# Altium integrated library Cypress Clocks & Buffers Clock Distribution.IntLib: 321 symbols (part 20 of 25)
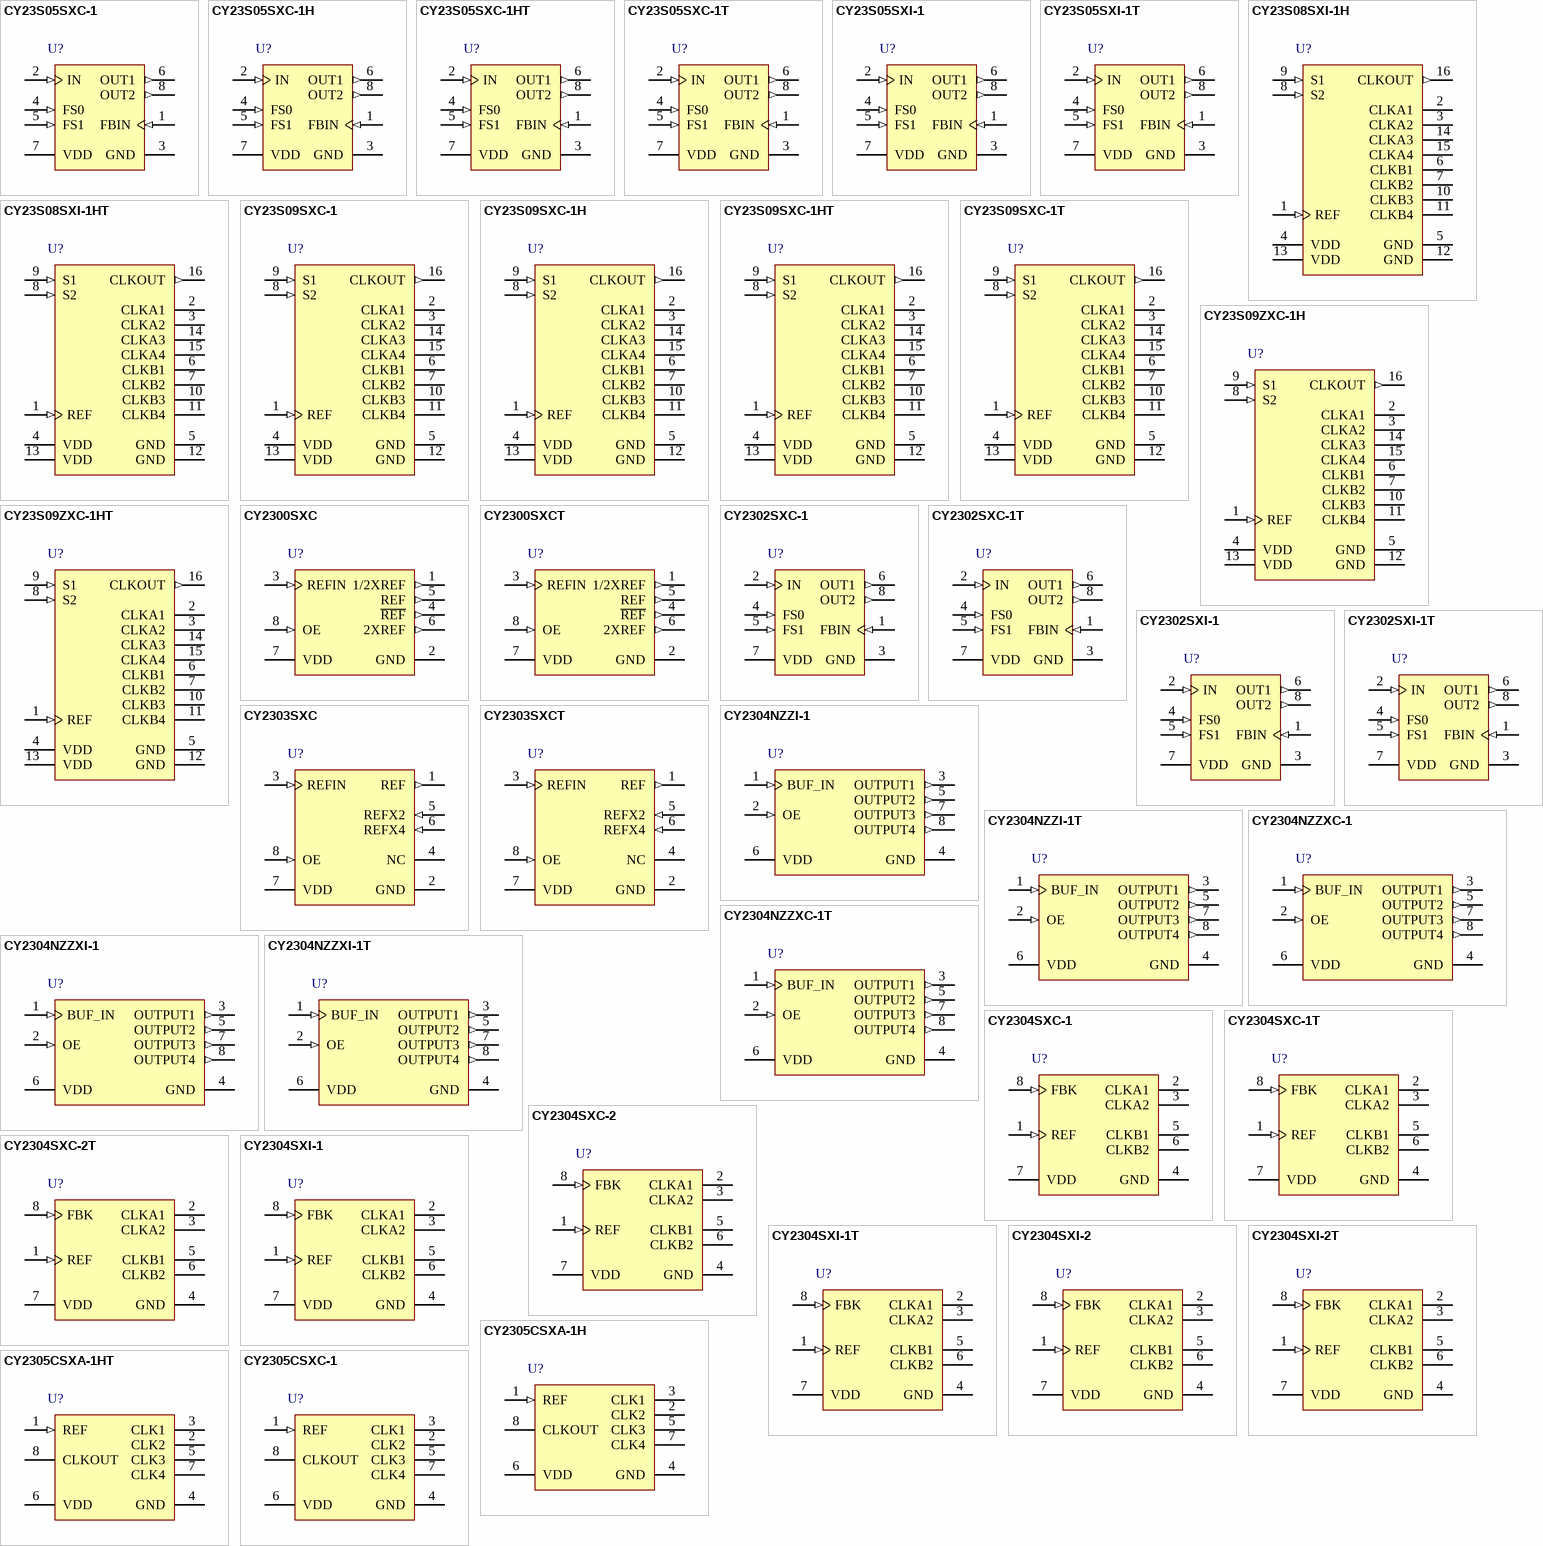
[diagram p35: symbols CY23S05SXC-1 to CY2305CSXC-1]

## CY2305CSXA-1HT
designator U?
Zero Delay Clock Buffer, 3.3 V, 5 Outputs, 10 to 133 MHz, -40 to 85 degC, 8-Pin SOIC (SX8), Tape and Reel; Manufacturer: Cypress; PartNumber: CY2305CSXA-1HT; Input Frequency Max. (MHz): 133; Input Frequency Min. (MHz): 10; Max. Operating Voltage (V): 3.6; Min. Operating Voltage (V): 3; No. of Outputs: 5; DatasheetVersion: Rev. *M; PackageVersion: Rev. *E, 06/2011; PackageReference: SX8; PackageDescription: 8-pin Lead SOIC-S08, Body 4.89 x 3.90 mm,Pitch 1.27 mm; Supplier 1: Digi-Key; Supplier Part Number 1: CY2305CSXA-1HT-ND; Supplier 2: Mouser; Supplier Part Number 2: 727-CY2305CSXA-1HT; Max. Operating Temp. (degreesC): 85; Min. Operating Temp. (degreesC): -40; Output Frequency Max. (MHz): 133; Output Frequency Min. (MHz): 10; Packing: Tape and Reel; RoHS: Pb-Free; Mounting Technology: Surface Mount; Code_JEDEC: MS-012; ComponentLink1Description: Manufacturer URL; ComponentLink1URL: http://www.cypress.com/; ComponentLink2Description: Datasheet; ComponentLink2URL: http://www.cypress.com/?docID=46973; ComponentLink3Description: Package Specification; ComponentLink3URL: http://www.cypress.com/?docID=39153
footprint CYP-SX8_N (SOIC, 8-Leads, Body 4.89x3.90mm, Pitch 1.27mm, IPC Medium Density)
footprint CYP-SX8_L (SOIC, 8-Leads, Body 4.89x3.90mm, Pitch 1.27mm, IPC High Density)
footprint CYP-SX8_M (SOIC, 8-Leads, Body 4.89x3.90mm, Pitch 1.27mm, IPC Low Density)
pins: 1 REF (in) "Input reference frequency", 2 CLK2 (hiz) "Buffered clock output", 3 CLK1 (hiz) "Buffered clock output", 4 GND (power) "Ground", 5 CLK3 (hiz) "Buffered clock output", 6 VDD (power) "3.3 V supply", 7 CLK4 (hiz) "Buffered clock output", 8 CLKOUT (hiz) "Buffered clock output, internal feedback on this pin"

## CY2305CSXC-1
designator U?
Zero Delay Clock Buffer, 3.3 V, 5 Outputs, 10 to 133 MHz, 0 to 70 degC, 8-Pin SOIC (SX8), Tube; Manufacturer: Cypress; PartNumber: CY2305CSXC-1; Input Frequency Max. (MHz): 133; Input Frequency Min. (MHz): 10; Max. Operating Voltage (V): 3.6; Min. Operating Voltage (V): 3; No. of Outputs: 5; DatasheetVersion: Rev. *M; PackageVersion: Rev. *E, 06/2011; PackageReference: SX8; PackageDescription: 8-pin Lead SOIC-S08, Body 4.89 x 3.90 mm,Pitch 1.27 mm; Supplier 1: Digi-Key; Supplier Part Number 1: 428-2193-5-ND; Supplier 2: Farnell; Supplier Part Number 2: 1873001; Supplier 3: Newark; Supplier Part Number 3: 19M2135; Supplier 4: Mouser; Supplier Part Number 4: 727-CY2305CSXC-1; Max. Operating Temp. (degreesC): 70; Min. Operating Temp. (degreesC): 0; Output Frequency Max. (MHz): 133; Output Frequency Min. (MHz): 10; Packing: Tube; RoHS: Pb-Free; Mounting Technology: Surface Mount; Code_JEDEC: MS-012; ComponentLink1Description: Manufacturer URL; ComponentLink1URL: http://www.cypress.com/; ComponentLink2Description: Datasheet; ComponentLink2URL: http://www.cypress.com/?docID=46973; ComponentLink3Description: Package Specification; ComponentLink3URL: http://www.cypress.com/?docID=39153
footprint CYP-SX8_N (SOIC, 8-Leads, Body 4.89x3.90mm, Pitch 1.27mm, IPC Medium Density)
footprint CYP-SX8_L (SOIC, 8-Leads, Body 4.89x3.90mm, Pitch 1.27mm, IPC High Density)
footprint CYP-SX8_M (SOIC, 8-Leads, Body 4.89x3.90mm, Pitch 1.27mm, IPC Low Density)
pins: 1 REF (in) "Input reference frequency", 2 CLK2 (hiz) "Buffered clock output", 3 CLK1 (hiz) "Buffered clock output", 4 GND (power) "Ground", 5 CLK3 (hiz) "Buffered clock output", 6 VDD (power) "3.3 V supply", 7 CLK4 (hiz) "Buffered clock output", 8 CLKOUT (hiz) "Buffered clock output, internal feedback on this pin"

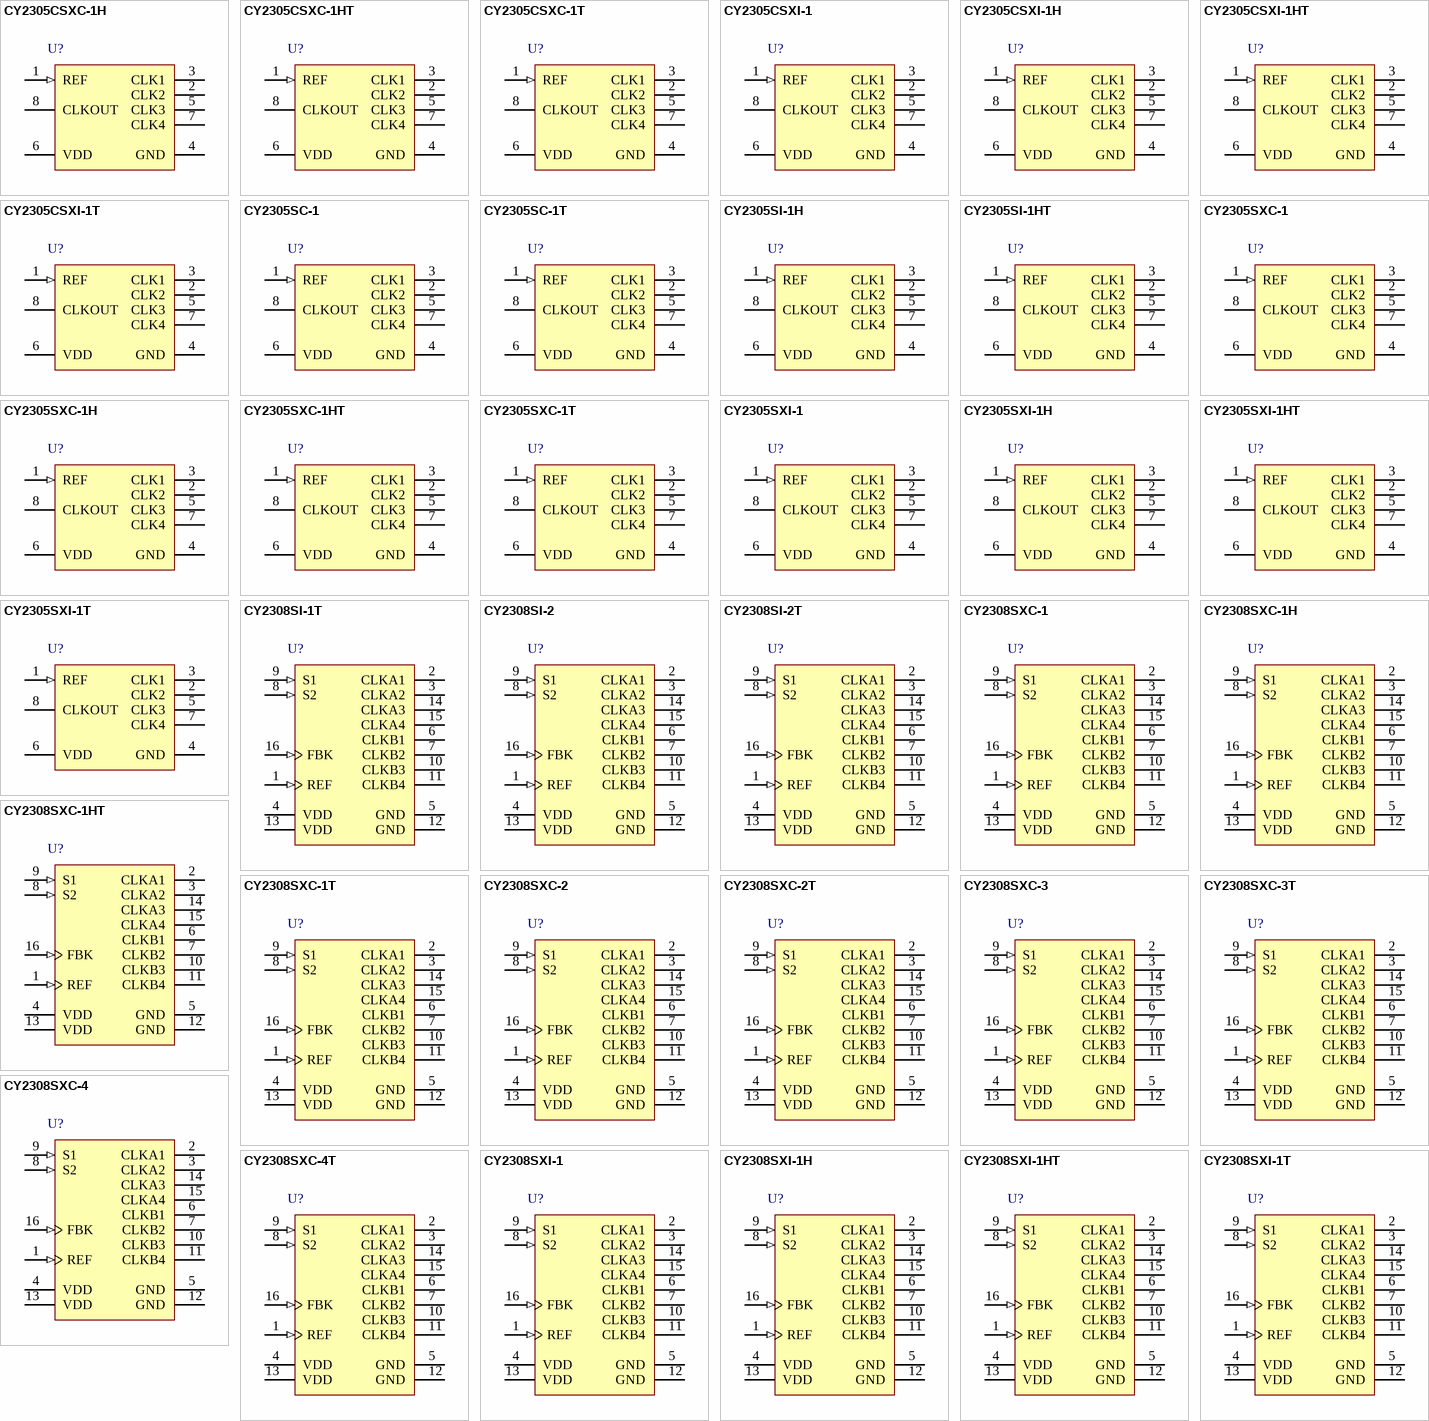
[diagram p12: symbols CY2305CSXC-1H to CY2308SXI-1T]

## CY2305CSXC-1H
designator U?
Zero Delay Clock Buffer, 3.3 V, 5 Outputs, 10 to 133 MHz, 0 to 70 degC, 8-Pin SOIC (SX8), Tube; Manufacturer: Cypress; PartNumber: CY2305CSXC-1H; Input Frequency Max. (MHz): 133; Input Frequency Min. (MHz): 10; Max. Operating Voltage (V): 3.6; Min. Operating Voltage (V): 3; No. of Outputs: 5; DatasheetVersion: Rev. *M; PackageVersion: Rev. *E, 06/2011; PackageReference: SX8; PackageDescription: 8-pin Lead SOIC-S08, Body 4.89 x 3.90 mm,Pitch 1.27 mm; Supplier 1: Digi-Key; Supplier Part Number 1: 428-2194-5-ND; Supplier 2: Newark; Supplier Part Number 2: 19M2136; Supplier 3: Mouser; Supplier Part Number 3: 727-CY2305CSXC-1H; Max. Operating Temp. (degreesC): 70; Min. Operating Temp. (degreesC): 0; Output Frequency Max. (MHz): 133; Output Frequency Min. (MHz): 10; Packing: Tube; RoHS: Pb-Free; Mounting Technology: Surface Mount; Code_JEDEC: MS-012; ComponentLink1Description: Manufacturer URL; ComponentLink1URL: http://www.cypress.com/; ComponentLink2Description: Datasheet; ComponentLink2URL: http://www.cypress.com/?docID=46973; ComponentLink3Description: Package Specification; ComponentLink3URL: http://www.cypress.com/?docID=39153
footprint CYP-SX8_N (SOIC, 8-Leads, Body 4.89x3.90mm, Pitch 1.27mm, IPC Medium Density)
footprint CYP-SX8_L (SOIC, 8-Leads, Body 4.89x3.90mm, Pitch 1.27mm, IPC High Density)
footprint CYP-SX8_M (SOIC, 8-Leads, Body 4.89x3.90mm, Pitch 1.27mm, IPC Low Density)
pins: 1 REF (in) "Input reference frequency", 2 CLK2 (hiz) "Buffered clock output", 3 CLK1 (hiz) "Buffered clock output", 4 GND (power) "Ground", 5 CLK3 (hiz) "Buffered clock output", 6 VDD (power) "3.3 V supply", 7 CLK4 (hiz) "Buffered clock output", 8 CLKOUT (hiz) "Buffered clock output, internal feedback on this pin"

## CY2305CSXC-1HT
designator U?
Zero Delay Clock Buffer, 3.3 V, 5 Outputs, 10 to 133 MHz, 0 to 70 degC, 8-Pin SOIC (SX8), Tape and Reel; Manufacturer: Cypress; PartNumber: CY2305CSXC-1HT; Input Frequency Max. (MHz): 133; Input Frequency Min. (MHz): 10; Max. Operating Voltage (V): 3.6; Min. Operating Voltage (V): 3; No. of Outputs: 5; DatasheetVersion: Rev. *M; PackageVersion: Rev. *E, 06/2011; PackageReference: SX8; PackageDescription: 8-pin Lead SOIC-S08, Body 4.89 x 3.90 mm,Pitch 1.27 mm; Supplier 1: Digi-Key; Supplier Part Number 1: CY2305CSXC-1HT-ND; Supplier 2: Mouser; Supplier Part Number 2: 727-CY2305CSXC-1HT; Max. Operating Temp. (degreesC): 70; Min. Operating Temp. (degreesC): 0; Output Frequency Max. (MHz): 133; Output Frequency Min. (MHz): 10; Packing: Tape and Reel; RoHS: Pb-Free; Mounting Technology: Surface Mount; Code_JEDEC: MS-012; ComponentLink1Description: Manufacturer URL; ComponentLink1URL: http://www.cypress.com/; ComponentLink2Description: Datasheet; ComponentLink2URL: http://www.cypress.com/?docID=46973; ComponentLink3Description: Package Specification; ComponentLink3URL: http://www.cypress.com/?docID=39153
footprint CYP-SX8_N (SOIC, 8-Leads, Body 4.89x3.90mm, Pitch 1.27mm, IPC Medium Density)
footprint CYP-SX8_L (SOIC, 8-Leads, Body 4.89x3.90mm, Pitch 1.27mm, IPC High Density)
footprint CYP-SX8_M (SOIC, 8-Leads, Body 4.89x3.90mm, Pitch 1.27mm, IPC Low Density)
pins: 1 REF (in) "Input reference frequency", 2 CLK2 (hiz) "Buffered clock output", 3 CLK1 (hiz) "Buffered clock output", 4 GND (power) "Ground", 5 CLK3 (hiz) "Buffered clock output", 6 VDD (power) "3.3 V supply", 7 CLK4 (hiz) "Buffered clock output", 8 CLKOUT (hiz) "Buffered clock output, internal feedback on this pin"

## CY2305CSXC-1T
designator U?
Zero Delay Clock Buffer, 3.3 V, 5 Outputs, 10 to 133 MHz, 0 to 70 degC, 8-Pin SOIC (SX8), Tape and Reel; Manufacturer: Cypress; PartNumber: CY2305CSXC-1T; Input Frequency Max. (MHz): 133; Input Frequency Min. (MHz): 10; Max. Operating Voltage (V): 3.6; Min. Operating Voltage (V): 3; No. of Outputs: 5; DatasheetVersion: Rev. *M; PackageVersion: Rev. *E, 06/2011; PackageReference: SX8; PackageDescription: 8-pin Lead SOIC-S08, Body 4.89 x 3.90 mm,Pitch 1.27 mm; Supplier 1: Digi-Key; Supplier Part Number 1: CY2305CSXC-1T-ND; Supplier 2: Newark; Supplier Part Number 2: 19M2138; Supplier 3: Mouser; Supplier Part Number 3: 727-CY2305CSXC-1T; Max. Operating Temp. (degreesC): 70; Min. Operating Temp. (degreesC): 0; Output Frequency Max. (MHz): 133; Output Frequency Min. (MHz): 10; Packing: Tape and Reel; RoHS: Pb-Free; Mounting Technology: Surface Mount; Code_JEDEC: MS-012; ComponentLink1Description: Manufacturer URL; ComponentLink1URL: http://www.cypress.com/; ComponentLink2Description: Datasheet; ComponentLink2URL: http://www.cypress.com/?docID=46973; ComponentLink3Description: Package Specification; ComponentLink3URL: http://www.cypress.com/?docID=39153
footprint CYP-SX8_N (SOIC, 8-Leads, Body 4.89x3.90mm, Pitch 1.27mm, IPC Medium Density)
footprint CYP-SX8_L (SOIC, 8-Leads, Body 4.89x3.90mm, Pitch 1.27mm, IPC High Density)
footprint CYP-SX8_M (SOIC, 8-Leads, Body 4.89x3.90mm, Pitch 1.27mm, IPC Low Density)
pins: 1 REF (in) "Input reference frequency", 2 CLK2 (hiz) "Buffered clock output", 3 CLK1 (hiz) "Buffered clock output", 4 GND (power) "Ground", 5 CLK3 (hiz) "Buffered clock output", 6 VDD (power) "3.3 V supply", 7 CLK4 (hiz) "Buffered clock output", 8 CLKOUT (hiz) "Buffered clock output, internal feedback on this pin"

## CY2305CSXI-1
designator U?
Zero Delay Clock Buffer, 3.3 V, 5 Outputs, 10 to 133 MHz, -40 to 85 degC, 8-Pin SOIC (SX8), Tube; Manufacturer: Cypress; PartNumber: CY2305CSXI-1; Input Frequency Max. (MHz): 133; Input Frequency Min. (MHz): 10; Max. Operating Voltage (V): 3.6; Min. Operating Voltage (V): 3; No. of Outputs: 5; DatasheetVersion: Rev. *M; PackageVersion: Rev. *E, 06/2011; PackageReference: SX8; PackageDescription: 8-pin Lead SOIC-S08, Body 4.89 x 3.90 mm,Pitch 1.27 mm; Supplier 1: Digi-Key; Supplier Part Number 1: 428-2195-5-ND; Supplier 2: Newark; Supplier Part Number 2: 19M2139; Supplier 3: Mouser; Supplier Part Number 3: 727-CY2305CSXI-1; Max. Operating Temp. (degreesC): 85; Min. Operating Temp. (degreesC): -40; Output Frequency Max. (MHz): 133; Output Frequency Min. (MHz): 10; Packing: Tube; RoHS: Pb-Free; Mounting Technology: Surface Mount; Code_JEDEC: MS-012; ComponentLink1Description: Manufacturer URL; ComponentLink1URL: http://www.cypress.com/; ComponentLink2Description: Datasheet; ComponentLink2URL: http://www.cypress.com/?docID=46973; ComponentLink3Description: Package Specification; ComponentLink3URL: http://www.cypress.com/?docID=39153
footprint CYP-SX8_N (SOIC, 8-Leads, Body 4.89x3.90mm, Pitch 1.27mm, IPC Medium Density)
footprint CYP-SX8_L (SOIC, 8-Leads, Body 4.89x3.90mm, Pitch 1.27mm, IPC High Density)
footprint CYP-SX8_M (SOIC, 8-Leads, Body 4.89x3.90mm, Pitch 1.27mm, IPC Low Density)
pins: 1 REF (in) "Input reference frequency", 2 CLK2 (hiz) "Buffered clock output", 3 CLK1 (hiz) "Buffered clock output", 4 GND (power) "Ground", 5 CLK3 (hiz) "Buffered clock output", 6 VDD (power) "3.3 V supply", 7 CLK4 (hiz) "Buffered clock output", 8 CLKOUT (hiz) "Buffered clock output, internal feedback on this pin"

## CY2305CSXI-1H
designator U?
Zero Delay Clock Buffer, 3.3 V, 5 Outputs, 10 to 133 MHz, -40 to 85 degC, 8-Pin SOIC (SX8), Tube; Manufacturer: Cypress; PartNumber: CY2305CSXI-1H; Input Frequency Max. (MHz): 133; Input Frequency Min. (MHz): 10; Max. Operating Voltage (V): 3.6; Min. Operating Voltage (V): 3; No. of Outputs: 5; DatasheetVersion: Rev. *M; PackageVersion: Rev. *E, 06/2011; PackageReference: SX8; PackageDescription: 8-pin Lead SOIC-S08, Body 4.89 x 3.90 mm,Pitch 1.27 mm; Supplier 1: Digi-Key; Supplier Part Number 1: 428-2196-5-ND; Supplier 2: Farnell; Supplier Part Number 2: 1876325; Supplier 3: Newark; Supplier Part Number 3: 19M2140; Supplier 4: Mouser; Supplier Part Number 4: 727-CY2305CSXI-1H; Max. Operating Temp. (degreesC): 85; Min. Operating Temp. (degreesC): -40; Output Frequency Max. (MHz): 133; Output Frequency Min. (MHz): 10; Packing: Tube; RoHS: Pb-Free; Mounting Technology: Surface Mount; Code_JEDEC: MS-012; ComponentLink1Description: Manufacturer URL; ComponentLink1URL: http://www.cypress.com/; ComponentLink2Description: Datasheet; ComponentLink2URL: http://www.cypress.com/?docID=46973; ComponentLink3Description: Package Specification; ComponentLink3URL: http://www.cypress.com/?docID=39153
footprint CYP-SX8_N (SOIC, 8-Leads, Body 4.89x3.90mm, Pitch 1.27mm, IPC Medium Density)
footprint CYP-SX8_L (SOIC, 8-Leads, Body 4.89x3.90mm, Pitch 1.27mm, IPC High Density)
footprint CYP-SX8_M (SOIC, 8-Leads, Body 4.89x3.90mm, Pitch 1.27mm, IPC Low Density)
pins: 1 REF (in) "Input reference frequency", 2 CLK2 (hiz) "Buffered clock output", 3 CLK1 (hiz) "Buffered clock output", 4 GND (power) "Ground", 5 CLK3 (hiz) "Buffered clock output", 6 VDD (power) "3.3 V supply", 7 CLK4 (hiz) "Buffered clock output", 8 CLKOUT (hiz) "Buffered clock output, internal feedback on this pin"

## CY2305CSXI-1HT
designator U?
Zero Delay Clock Buffer, 3.3 V, 5 Outputs, 10 to 133 MHz, -40 to 85 degC, 8-Pin SOIC (SX8), Tape and Reel; Manufacturer: Cypress; PartNumber: CY2305CSXI-1HT; Input Frequency Max. (MHz): 133; Input Frequency Min. (MHz): 10; Max. Operating Voltage (V): 3.6; Min. Operating Voltage (V): 3; No. of Outputs: 5; DatasheetVersion: Rev. *M; PackageVersion: Rev. *E, 06/2011; PackageReference: SX8; PackageDescription: 8-pin Lead SOIC-S08, Body 4.89 x 3.90 mm,Pitch 1.27 mm; Supplier 1: Digi-Key; Supplier Part Number 1: CY2305CSXI-1HT-ND; Supplier 2: Mouser; Supplier Part Number 2: 727-CY2305CSXI-1HT; Max. Operating Temp. (degreesC): 85; Min. Operating Temp. (degreesC): -40; Output Frequency Max. (MHz): 133; Output Frequency Min. (MHz): 10; Packing: Tape and Reel; RoHS: Pb-Free; Mounting Technology: Surface Mount; Code_JEDEC: MS-012; ComponentLink1Description: Manufacturer URL; ComponentLink1URL: http://www.cypress.com/; ComponentLink2Description: Datasheet; ComponentLink2URL: http://www.cypress.com/?docID=46973; ComponentLink3Description: Package Specification; ComponentLink3URL: http://www.cypress.com/?docID=39153
footprint CYP-SX8_N (SOIC, 8-Leads, Body 4.89x3.90mm, Pitch 1.27mm, IPC Medium Density)
footprint CYP-SX8_L (SOIC, 8-Leads, Body 4.89x3.90mm, Pitch 1.27mm, IPC High Density)
footprint CYP-SX8_M (SOIC, 8-Leads, Body 4.89x3.90mm, Pitch 1.27mm, IPC Low Density)
pins: 1 REF (in) "Input reference frequency", 2 CLK2 (hiz) "Buffered clock output", 3 CLK1 (hiz) "Buffered clock output", 4 GND (power) "Ground", 5 CLK3 (hiz) "Buffered clock output", 6 VDD (power) "3.3 V supply", 7 CLK4 (hiz) "Buffered clock output", 8 CLKOUT (hiz) "Buffered clock output, internal feedback on this pin"

## CY2305CSXI-1T
designator U?
Zero Delay Clock Buffer, 3.3 V, 5 Outputs, 10 to 133 MHz, -40 to 85 degC, 8-Pin SOIC (SX8), Tape and Reel; Manufacturer: Cypress; PartNumber: CY2305CSXI-1T; Input Frequency Max. (MHz): 133; Input Frequency Min. (MHz): 10; Max. Operating Voltage (V): 3.6; Min. Operating Voltage (V): 3; No. of Outputs: 5; DatasheetVersion: Rev. *M; PackageVersion: Rev. *E, 06/2011; PackageReference: SX8; PackageDescription: 8-pin Lead SOIC-S08, Body 4.89 x 3.90 mm,Pitch 1.27 mm; Supplier 1: Digi-Key; Supplier Part Number 1: CY2305CSXI-1T-ND; Supplier 2: Mouser; Supplier Part Number 2: 727-CY2305CSXI-1T; Max. Operating Temp. (degreesC): 85; Min. Operating Temp. (degreesC): -40; Output Frequency Max. (MHz): 133; Output Frequency Min. (MHz): 10; Packing: Tape and Reel; RoHS: Pb-Free; Mounting Technology: Surface Mount; Code_JEDEC: MS-012; ComponentLink1Description: Manufacturer URL; ComponentLink1URL: http://www.cypress.com/; ComponentLink2Description: Datasheet; ComponentLink2URL: http://www.cypress.com/?docID=46973; ComponentLink3Description: Package Specification; ComponentLink3URL: http://www.cypress.com/?docID=39153
footprint CYP-SX8_N (SOIC, 8-Leads, Body 4.89x3.90mm, Pitch 1.27mm, IPC Medium Density)
footprint CYP-SX8_L (SOIC, 8-Leads, Body 4.89x3.90mm, Pitch 1.27mm, IPC High Density)
footprint CYP-SX8_M (SOIC, 8-Leads, Body 4.89x3.90mm, Pitch 1.27mm, IPC Low Density)
pins: 1 REF (in) "Input reference frequency", 2 CLK2 (hiz) "Buffered clock output", 3 CLK1 (hiz) "Buffered clock output", 4 GND (power) "Ground", 5 CLK3 (hiz) "Buffered clock output", 6 VDD (power) "3.3 V supply", 7 CLK4 (hiz) "Buffered clock output", 8 CLKOUT (hiz) "Buffered clock output, internal feedback on this pin"

## CY2305SC-1
designator U?
Low Cost Zero Delay Buffer, 3.3 V, 5 Outputs, 10 to 133 MHz, 0 to 70 degC, 8-Pin SOIC (SX8), Tube; Manufacturer: Cypress; PartNumber: CY2305SC-1; Input Frequency Max. (MHz): 133; Input Frequency Min. (MHz): 10; Max. Operating Voltage (V): 3.6; Min. Operating Voltage (V): 3; No. of Outputs: 5; Output Frequency Max. (MHz): 100; DatasheetVersion: Rev. *R; PackageVersion: Rev. *F; PackageReference: S8; PackageDescription: 8-Pin Small Outline Integrated Circuit Package, Body 4.889 x 3.8985 mm, Pitch 1.27 mm; Supplier 1: Digi-Key; Supplier Part Number 1: 428-1346-ND; Supplier 2: Mouser; Supplier Part Number 2: 727-CY2305SC1; Max. Operating Temp. (degreesC): 70; Min. Operating Temp. (degreesC): 0; Output Frequency Min. (MHz): 10; Packing: Tube; Mounting Technology: Surface Mount; Code_JEDEC: MS-012; ComponentLink1Description: Manufacturer URL; ComponentLink1URL: http://www.cypress.com/; ComponentLink2Description: Datasheet; ComponentLink2URL: http://www.cypress.com/?docID=46691; ComponentLink3Description: Package Specification; ComponentLink3URL: http://www.cypress.com/?docID=46287
footprint CYP-S8_N (SOIC, 8-Leads, Body 5x4mm, Pitch 1.27mm, IPC Medium Density)
footprint CYP-S8_L (SOIC, 8-Leads, Body 5x4mm, Pitch 1.27mm, IPC High Density)
footprint CYP-S8_M (SOIC, 8-Leads, Body 5x4mm, Pitch 1.27mm, IPC Low Density)
pins: 1 REF (in) "Input reference frequency", 2 CLK2 (hiz) "Buffered clock output", 3 CLK1 (hiz) "Buffered clock output", 4 GND (power) "Ground", 5 CLK3 (hiz) "Buffered clock output", 6 VDD (power) "3.3 V supply", 7 CLK4 (hiz) "Buffered clock output", 8 CLKOUT (hiz) "Buffered clock output, internal feedback on this pin"

## CY2305SC-1T
designator U?
Low Cost Zero Delay Buffer, 3.3 V, 5 Outputs, 10 to 133 MHz, 0 to 70 degC, 8-Pin SOIC (SX8), Tape and Reel; Manufacturer: Cypress; PartNumber: CY2305SC-1T; Input Frequency Max. (MHz): 133; Input Frequency Min. (MHz): 10; Max. Operating Voltage (V): 3.6; Min. Operating Voltage (V): 3; No. of Outputs: 5; Output Frequency Max. (MHz): 100; DatasheetVersion: Rev. *R; PackageVersion: Rev. *F; PackageReference: S8; PackageDescription: 8-Pin Small Outline Integrated Circuit Package, Body 4.889 x 3.8985 mm, Pitch 1.27 mm; Supplier 1: Mouser; Supplier Part Number 1: N/A; Max. Operating Temp. (degreesC): 70; Min. Operating Temp. (degreesC): 0; Output Frequency Min. (MHz): 10; Packing: Tape and Reel; Mounting Technology: Surface Mount; Code_JEDEC: MS-012; ComponentLink1Description: Manufacturer URL; ComponentLink1URL: http://www.cypress.com/; ComponentLink2Description: Datasheet; ComponentLink2URL: http://www.cypress.com/?docID=46691; ComponentLink3Description: Package Specification; ComponentLink3URL: http://www.cypress.com/?docID=46287
footprint CYP-S8_N (SOIC, 8-Leads, Body 5x4mm, Pitch 1.27mm, IPC Medium Density)
footprint CYP-S8_L (SOIC, 8-Leads, Body 5x4mm, Pitch 1.27mm, IPC High Density)
footprint CYP-S8_M (SOIC, 8-Leads, Body 5x4mm, Pitch 1.27mm, IPC Low Density)
pins: 1 REF (in) "Input reference frequency", 2 CLK2 (hiz) "Buffered clock output", 3 CLK1 (hiz) "Buffered clock output", 4 GND (power) "Ground", 5 CLK3 (hiz) "Buffered clock output", 6 VDD (power) "3.3 V supply", 7 CLK4 (hiz) "Buffered clock output", 8 CLKOUT (hiz) "Buffered clock output, internal feedback on this pin"

## CY2305SI-1H
designator U?
Low Cost Zero Delay Buffer, 3.3 V, 5 Outputs, 10 to 133 MHz, -40 to 85 degC, 8-Pin SOIC (SX8), Tube; Manufacturer: Cypress; PartNumber: CY2305SI-1H; Input Frequency Max. (MHz): 133; Input Frequency Min. (MHz): 10; Max. Operating Voltage (V): 3.6; Min. Operating Voltage (V): 3; No. of Outputs: 5; Output Frequency Max. (MHz): 100; DatasheetVersion: Rev. *R; PackageVersion: Rev. *F; PackageReference: S8; PackageDescription: 8-Pin Small Outline Integrated Circuit Package, Body 4.889 x 3.8985 mm, Pitch 1.27 mm; Supplier 1: Digi-Key; Supplier Part Number 1: 428-1349-ND; Supplier 2: Mouser; Supplier Part Number 2: 727-CY2305SI-1H; Max. Operating Temp. (degreesC): 85; Min. Operating Temp. (degreesC): -40; Output Frequency Min. (MHz): 10; Packing: Tube; Mounting Technology: Surface Mount; Code_JEDEC: MS-012; ComponentLink1Description: Manufacturer URL; ComponentLink1URL: http://www.cypress.com/; ComponentLink2Description: Datasheet; ComponentLink2URL: http://www.cypress.com/?docID=46691; ComponentLink3Description: Package Specification; ComponentLink3URL: http://www.cypress.com/?docID=46287
footprint CYP-S8_N (SOIC, 8-Leads, Body 5x4mm, Pitch 1.27mm, IPC Medium Density)
footprint CYP-S8_L (SOIC, 8-Leads, Body 5x4mm, Pitch 1.27mm, IPC High Density)
footprint CYP-S8_M (SOIC, 8-Leads, Body 5x4mm, Pitch 1.27mm, IPC Low Density)
pins: 1 REF (in) "Input reference frequency", 2 CLK2 (hiz) "Buffered clock output", 3 CLK1 (hiz) "Buffered clock output", 4 GND (power) "Ground", 5 CLK3 (hiz) "Buffered clock output", 6 VDD (power) "3.3 V supply", 7 CLK4 (hiz) "Buffered clock output", 8 CLKOUT (hiz) "Buffered clock output, internal feedback on this pin"

## CY2305SI-1HT
designator U?
Low Cost Zero Delay Buffer, 3.3 V, 5 Outputs, 10 to 133 MHz, -40 to 85 degC, 8-Pin SOIC (SX8), Tape and Reel; Manufacturer: Cypress; PartNumber: CY2305SI-1HT; Input Frequency Max. (MHz): 133; Input Frequency Min. (MHz): 10; Max. Operating Voltage (V): 3.6; Min. Operating Voltage (V): 3; No. of Outputs: 5; Output Frequency Max. (MHz): 100; DatasheetVersion: Rev. *R; PackageVersion: Rev. *F; PackageReference: S8; PackageDescription: 8-Pin Small Outline Integrated Circuit Package, Body 4.889 x 3.8985 mm, Pitch 1.27 mm; Supplier 1: Mouser; Supplier Part Number 1: N/A; Max. Operating Temp. (degreesC): 85; Min. Operating Temp. (degreesC): -40; Output Frequency Min. (MHz): 10; Packing: Tape and Reel; Mounting Technology: Surface Mount; Code_JEDEC: MS-012; ComponentLink1Description: Manufacturer URL; ComponentLink1URL: http://www.cypress.com/; ComponentLink2Description: Datasheet; ComponentLink2URL: http://www.cypress.com/?docID=46691; ComponentLink3Description: Package Specification; ComponentLink3URL: http://www.cypress.com/?docID=46287
footprint CYP-S8_N (SOIC, 8-Leads, Body 5x4mm, Pitch 1.27mm, IPC Medium Density)
footprint CYP-S8_L (SOIC, 8-Leads, Body 5x4mm, Pitch 1.27mm, IPC High Density)
footprint CYP-S8_M (SOIC, 8-Leads, Body 5x4mm, Pitch 1.27mm, IPC Low Density)
pins: 1 REF (in) "Input reference frequency", 2 CLK2 (hiz) "Buffered clock output", 3 CLK1 (hiz) "Buffered clock output", 4 GND (power) "Ground", 5 CLK3 (hiz) "Buffered clock output", 6 VDD (power) "3.3 V supply", 7 CLK4 (hiz) "Buffered clock output", 8 CLKOUT (hiz) "Buffered clock output, internal feedback on this pin"

## CY2305SXC-1
designator U?
Low Cost Zero Delay Buffer, 3.3 V, 5 Outputs, 10 to 133 MHz, 0 to 70 degC, 8-Pin SOIC (SX8), Tube; Manufacturer: Cypress; PartNumber: CY2305SXC-1; Input Frequency Max. (MHz): 133; Input Frequency Min. (MHz): 10; Max. Operating Voltage (V): 3.6; Min. Operating Voltage (V): 3; No. of Outputs: 5; Output Frequency Max. (MHz): 100; DatasheetVersion: Rev. *R; PackageVersion: Rev. *E, 06/2011; PackageReference: SX8; PackageDescription: 8-pin Lead SOIC-S08, Body 4.89 x 3.90 mm,Pitch 1.27 mm; Supplier 1: Digi-Key; Supplier Part Number 1: 428-1766-5-ND; Supplier 2: Farnell; Supplier Part Number 2: 8911274; Supplier 3: Newark; Supplier Part Number 3: 19M2151; Supplier 4: Mouser; Supplier Part Number 4: 727-CY2305SXC-1; Max. Operating Temp. (degreesC): 70; Min. Operating Temp. (degreesC): 0; Output Frequency Min. (MHz): 10; Packing: Tube; RoHS: Pb-Free; Mounting Technology: Surface Mount; Code_JEDEC: MS-012; ComponentLink1Description: Manufacturer URL; ComponentLink1URL: http://www.cypress.com/; ComponentLink2Description: Datasheet; ComponentLink2URL: http://www.cypress.com/?docID=46691; ComponentLink3Description: Package Specification; ComponentLink3URL: http://www.cypress.com/?docID=39153
footprint CYP-SX8_N (SOIC, 8-Leads, Body 4.89x3.90mm, Pitch 1.27mm, IPC Medium Density)
footprint CYP-SX8_L (SOIC, 8-Leads, Body 4.89x3.90mm, Pitch 1.27mm, IPC High Density)
footprint CYP-SX8_M (SOIC, 8-Leads, Body 4.89x3.90mm, Pitch 1.27mm, IPC Low Density)
pins: 1 REF (in) "Input reference frequency", 2 CLK2 (hiz) "Buffered clock output", 3 CLK1 (hiz) "Buffered clock output", 4 GND (power) "Ground", 5 CLK3 (hiz) "Buffered clock output", 6 VDD (power) "3.3 V supply", 7 CLK4 (hiz) "Buffered clock output", 8 CLKOUT (hiz) "Buffered clock output, internal feedback on this pin"

## CY2305SXC-1H
designator U?
Low Cost Zero Delay Buffer, 3.3 V, 5 Outputs, 10 to 133 MHz, 0 to 70 degC, 8-Pin SOIC (SX8), Tube; Manufacturer: Cypress; PartNumber: CY2305SXC-1H; Input Frequency Max. (MHz): 133; Input Frequency Min. (MHz): 10; Max. Operating Voltage (V): 3.6; Min. Operating Voltage (V): 3; No. of Outputs: 5; Output Frequency Max. (MHz): 100; DatasheetVersion: Rev. *R; PackageVersion: Rev. *E, 06/2011; PackageReference: SX8; PackageDescription: 8-pin Lead SOIC-S08, Body 4.89 x 3.90 mm,Pitch 1.27 mm; Supplier 1: Digi-Key; Supplier Part Number 1: 428-1767-5-ND; Supplier 2: Farnell; Supplier Part Number 2: 1837319; Supplier 3: Newark; Supplier Part Number 3: 19M2152; Supplier 4: Mouser; Supplier Part Number 4: 727-CY2305SXC-1H; Max. Operating Temp. (degreesC): 70; Min. Operating Temp. (degreesC): 0; Output Frequency Min. (MHz): 10; Packing: Tube; RoHS: Pb-Free; Mounting Technology: Surface Mount; Code_JEDEC: MS-012; ComponentLink1Description: Manufacturer URL; ComponentLink1URL: http://www.cypress.com/; ComponentLink2Description: Datasheet; ComponentLink2URL: http://www.cypress.com/?docID=46691; ComponentLink3Description: Package Specification; ComponentLink3URL: http://www.cypress.com/?docID=39153
footprint CYP-SX8_N (SOIC, 8-Leads, Body 4.89x3.90mm, Pitch 1.27mm, IPC Medium Density)
footprint CYP-SX8_L (SOIC, 8-Leads, Body 4.89x3.90mm, Pitch 1.27mm, IPC High Density)
footprint CYP-SX8_M (SOIC, 8-Leads, Body 4.89x3.90mm, Pitch 1.27mm, IPC Low Density)
pins: 1 REF (in) "Input reference frequency", 2 CLK2 (hiz) "Buffered clock output", 3 CLK1 (hiz) "Buffered clock output", 4 GND (power) "Ground", 5 CLK3 (hiz) "Buffered clock output", 6 VDD (power) "3.3 V supply", 7 CLK4 (hiz) "Buffered clock output", 8 CLKOUT (hiz) "Buffered clock output, internal feedback on this pin"

## CY2305SXC-1HT
designator U?
Low Cost Zero Delay Buffer, 3.3 V, 5 Outputs, 10 to 133 MHz, 0 to 70 degC, 8-Pin SOIC (SX8), Tape and Reel; Manufacturer: Cypress; PartNumber: CY2305SXC-1HT; Input Frequency Max. (MHz): 133; Input Frequency Min. (MHz): 10; Max. Operating Voltage (V): 3.6; Min. Operating Voltage (V): 3; No. of Outputs: 5; Output Frequency Max. (MHz): 100; DatasheetVersion: Rev. *R; PackageVersion: Rev. *E, 06/2011; PackageReference: SX8; PackageDescription: 8-pin Lead SOIC-S08, Body 4.89 x 3.90 mm,Pitch 1.27 mm; Supplier 1: Digi-Key; Supplier Part Number 1: CY2305SXC-1HT-ND; Supplier 2: Farnell; Supplier Part Number 2: 1873002; Supplier 3: Newark; Supplier Part Number 3: 19M2153; Supplier 4: Newark; Supplier Part Number 4: 27T9398; Supplier 5: Mouser; Supplier Part Number 5: 727-CY2305SXC-1HT; Max. Operating Temp. (degreesC): 70; Min. Operating Temp. (degreesC): 0; Output Frequency Min. (MHz): 10; Packing: Tape and Reel; RoHS: Pb-Free; Mounting Technology: Surface Mount; Code_JEDEC: MS-012; ComponentLink1Description: Manufacturer URL; ComponentLink1URL: http://www.cypress.com/; ComponentLink2Description: Datasheet; ComponentLink2URL: http://www.cypress.com/?docID=46691; ComponentLink3Description: Package Specification; ComponentLink3URL: http://www.cypress.com/?docID=39153
footprint CYP-SX8_N (SOIC, 8-Leads, Body 4.89x3.90mm, Pitch 1.27mm, IPC Medium Density)
footprint CYP-SX8_L (SOIC, 8-Leads, Body 4.89x3.90mm, Pitch 1.27mm, IPC High Density)
footprint CYP-SX8_M (SOIC, 8-Leads, Body 4.89x3.90mm, Pitch 1.27mm, IPC Low Density)
pins: 1 REF (in) "Input reference frequency", 2 CLK2 (hiz) "Buffered clock output", 3 CLK1 (hiz) "Buffered clock output", 4 GND (power) "Ground", 5 CLK3 (hiz) "Buffered clock output", 6 VDD (power) "3.3 V supply", 7 CLK4 (hiz) "Buffered clock output", 8 CLKOUT (hiz) "Buffered clock output, internal feedback on this pin"

## CY2305SXC-1T
designator U?
Low Cost Zero Delay Buffer, 3.3 V, 5 Outputs, 10 to 133 MHz, 0 to 70 degC, 8-Pin SOIC (SX8), Tape and Reel; Manufacturer: Cypress; PartNumber: CY2305SXC-1T; Input Frequency Max. (MHz): 133; Input Frequency Min. (MHz): 10; Max. Operating Voltage (V): 3.6; Min. Operating Voltage (V): 3; No. of Outputs: 5; Output Frequency Max. (MHz): 100; DatasheetVersion: Rev. *R; PackageVersion: Rev. *E, 06/2011; PackageReference: SX8; PackageDescription: 8-pin Lead SOIC-S08, Body 4.89 x 3.90 mm,Pitch 1.27 mm; Supplier 1: Digi-Key; Supplier Part Number 1: CY2305SXC-1T-ND; Supplier 2: Farnell; Supplier Part Number 2: 1873004; Supplier 3: Newark; Supplier Part Number 3: 19M2154; Supplier 4: Newark; Supplier Part Number 4: 27T9399; Supplier 5: Mouser; Supplier Part Number 5: 727-CY2305SXC-1T; Max. Operating Temp. (degreesC): 70; Min. Operating Temp. (degreesC): 0; Output Frequency Min. (MHz): 10; Packing: Tape and Reel; RoHS: Pb-Free; Mounting Technology: Surface Mount; Code_JEDEC: MS-012; ComponentLink1Description: Manufacturer URL; ComponentLink1URL: http://www.cypress.com/; ComponentLink2Description: Datasheet; ComponentLink2URL: http://www.cypress.com/?docID=46691; ComponentLink3Description: Package Specification; ComponentLink3URL: http://www.cypress.com/?docID=39153
footprint CYP-SX8_N (SOIC, 8-Leads, Body 4.89x3.90mm, Pitch 1.27mm, IPC Medium Density)
footprint CYP-SX8_L (SOIC, 8-Leads, Body 4.89x3.90mm, Pitch 1.27mm, IPC High Density)
footprint CYP-SX8_M (SOIC, 8-Leads, Body 4.89x3.90mm, Pitch 1.27mm, IPC Low Density)
pins: 1 REF (in) "Input reference frequency", 2 CLK2 (hiz) "Buffered clock output", 3 CLK1 (hiz) "Buffered clock output", 4 GND (power) "Ground", 5 CLK3 (hiz) "Buffered clock output", 6 VDD (power) "3.3 V supply", 7 CLK4 (hiz) "Buffered clock output", 8 CLKOUT (hiz) "Buffered clock output, internal feedback on this pin"

## CY2305SXI-1
designator U?
Low Cost Zero Delay Buffer, 3.3 V, 5 Outputs, 10 to 133 MHz, -40 to 85 degC, 8-Pin SOIC (SX8), Tube; Manufacturer: Cypress; PartNumber: CY2305SXI-1; Input Frequency Max. (MHz): 133; Input Frequency Min. (MHz): 10; Max. Operating Voltage (V): 3.6; Min. Operating Voltage (V): 3; No. of Outputs: 5; Output Frequency Max. (MHz): 100; DatasheetVersion: Rev. *R; PackageVersion: Rev. *E, 06/2011; PackageReference: SX8; PackageDescription: 8-pin Lead SOIC-S08, Body 4.89 x 3.90 mm,Pitch 1.27 mm; Supplier 1: Digi-Key; Supplier Part Number 1: 428-1792-ND; Supplier 2: Newark; Supplier Part Number 2: 19M2155; Supplier 3: Newark; Supplier Part Number 3: 03P1663; Supplier 4: Mouser; Supplier Part Number 4: 727-CY2305SXI-1; Max. Operating Temp. (degreesC): 85; Min. Operating Temp. (degreesC): -40; Output Frequency Min. (MHz): 10; Packing: Tube; RoHS: Pb-Free; Mounting Technology: Surface Mount; Code_JEDEC: MS-012; ComponentLink1Description: Manufacturer URL; ComponentLink1URL: http://www.cypress.com/; ComponentLink2Description: Datasheet; ComponentLink2URL: http://www.cypress.com/?docID=46691; ComponentLink3Description: Package Specification; ComponentLink3URL: http://www.cypress.com/?docID=39153
footprint CYP-SX8_N (SOIC, 8-Leads, Body 4.89x3.90mm, Pitch 1.27mm, IPC Medium Density)
footprint CYP-SX8_L (SOIC, 8-Leads, Body 4.89x3.90mm, Pitch 1.27mm, IPC High Density)
footprint CYP-SX8_M (SOIC, 8-Leads, Body 4.89x3.90mm, Pitch 1.27mm, IPC Low Density)
pins: 1 REF (in) "Input reference frequency", 2 CLK2 (hiz) "Buffered clock output", 3 CLK1 (hiz) "Buffered clock output", 4 GND (power) "Ground", 5 CLK3 (hiz) "Buffered clock output", 6 VDD (power) "3.3 V supply", 7 CLK4 (hiz) "Buffered clock output", 8 CLKOUT (hiz) "Buffered clock output, internal feedback on this pin"

## CY2305SXI-1H
designator U?
Low Cost Zero Delay Buffer, 3.3 V, 5 Outputs, 10 to 133 MHz, -40 to 85 degC, 8-Pin SOIC (SX8), Tube; Manufacturer: Cypress; PartNumber: CY2305SXI-1H; Input Frequency Max. (MHz): 133; Input Frequency Min. (MHz): 10; Max. Operating Voltage (V): 3.6; Min. Operating Voltage (V): 3; No. of Outputs: 5; Output Frequency Max. (MHz): 100; DatasheetVersion: Rev. *R; PackageVersion: Rev. *E, 06/2011; PackageReference: SX8; PackageDescription: 8-pin Lead SOIC-S08, Body 4.89 x 3.90 mm,Pitch 1.27 mm; Supplier 1: Digi-Key; Supplier Part Number 1: 428-2895-5-ND; Supplier 2: Newark; Supplier Part Number 2: 19M2156; Supplier 3: Mouser; Supplier Part Number 3: 727-CY2305SXI-1H; Max. Operating Temp. (degreesC): 85; Min. Operating Temp. (degreesC): -40; Output Frequency Min. (MHz): 10; Packing: Tube; RoHS: Pb-Free; Mounting Technology: Surface Mount; Code_JEDEC: MS-012; ComponentLink1Description: Manufacturer URL; ComponentLink1URL: http://www.cypress.com/; ComponentLink2Description: Datasheet; ComponentLink2URL: http://www.cypress.com/?docID=46691; ComponentLink3Description: Package Specification; ComponentLink3URL: http://www.cypress.com/?docID=39153
footprint CYP-SX8_N (SOIC, 8-Leads, Body 4.89x3.90mm, Pitch 1.27mm, IPC Medium Density)
footprint CYP-SX8_L (SOIC, 8-Leads, Body 4.89x3.90mm, Pitch 1.27mm, IPC High Density)
footprint CYP-SX8_M (SOIC, 8-Leads, Body 4.89x3.90mm, Pitch 1.27mm, IPC Low Density)
pins: 1 REF (in) "Input reference frequency", 2 CLK2 (hiz) "Buffered clock output", 3 CLK1 (hiz) "Buffered clock output", 4 GND (power) "Ground", 5 CLK3 (hiz) "Buffered clock output", 6 VDD (power) "3.3 V supply", 7 CLK4 (hiz) "Buffered clock output", 8 CLKOUT (hiz) "Buffered clock output, internal feedback on this pin"

## CY2305SXI-1HT
designator U?
Low Cost Zero Delay Buffer, 3.3 V, 5 Outputs, 10 to 133 MHz, -40 to 85 degC, 8-Pin SOIC (SX8), Tape and Reel; Manufacturer: Cypress; PartNumber: CY2305SXI-1HT; Input Frequency Max. (MHz): 133; Input Frequency Min. (MHz): 10; Max. Operating Voltage (V): 3.6; Min. Operating Voltage (V): 3; No. of Outputs: 5; Output Frequency Max. (MHz): 100; DatasheetVersion: Rev. *R; PackageVersion: Rev. *E, 06/2011; PackageReference: SX8; PackageDescription: 8-pin Lead SOIC-S08, Body 4.89 x 3.90 mm,Pitch 1.27 mm; Supplier 1: Digi-Key; Supplier Part Number 1: CY2305SXI-1HT-ND; Supplier 2: Farnell; Supplier Part Number 2: 1873005; Supplier 3: Newark; Supplier Part Number 3: 19M2157; Supplier 4: Mouser; Supplier Part Number 4: 727-CY2305SXI-1HT; Max. Operating Temp. (degreesC): 85; Min. Operating Temp. (degreesC): -40; Output Frequency Min. (MHz): 10; Packing: Tape and Reel; RoHS: Pb-Free; Mounting Technology: Surface Mount; Code_JEDEC: MS-012; ComponentLink1Description: Manufacturer URL; ComponentLink1URL: http://www.cypress.com/; ComponentLink2Description: Datasheet; ComponentLink2URL: http://www.cypress.com/?docID=46691; ComponentLink3Description: Package Specification; ComponentLink3URL: http://www.cypress.com/?docID=39153
footprint CYP-SX8_N (SOIC, 8-Leads, Body 4.89x3.90mm, Pitch 1.27mm, IPC Medium Density)
footprint CYP-SX8_L (SOIC, 8-Leads, Body 4.89x3.90mm, Pitch 1.27mm, IPC High Density)
footprint CYP-SX8_M (SOIC, 8-Leads, Body 4.89x3.90mm, Pitch 1.27mm, IPC Low Density)
pins: 1 REF (in) "Input reference frequency", 2 CLK2 (hiz) "Buffered clock output", 3 CLK1 (hiz) "Buffered clock output", 4 GND (power) "Ground", 5 CLK3 (hiz) "Buffered clock output", 6 VDD (power) "3.3 V supply", 7 CLK4 (hiz) "Buffered clock output", 8 CLKOUT (hiz) "Buffered clock output, internal feedback on this pin"

## CY2305SXI-1T
designator U?
Low Cost Zero Delay Buffer, 3.3 V, 5 Outputs, 10 to 133 MHz, -40 to 85 degC, 8-Pin SOIC (SX8), Tape and Reel; Manufacturer: Cypress; PartNumber: CY2305SXI-1T; Input Frequency Max. (MHz): 133; Input Frequency Min. (MHz): 10; Max. Operating Voltage (V): 3.6; Min. Operating Voltage (V): 3; No. of Outputs: 5; Output Frequency Max. (MHz): 100; DatasheetVersion: Rev. *R; PackageVersion: Rev. *E, 06/2011; PackageReference: SX8; PackageDescription: 8-pin Lead SOIC-S08, Body 4.89 x 3.90 mm,Pitch 1.27 mm; Supplier 1: Digi-Key; Supplier Part Number 1: CY2305SXI-1T-ND; Supplier 2: Newark; Supplier Part Number 2: 19M2158; Supplier 3: Mouser; Supplier Part Number 3: 727-CY2305SXI-1T; Max. Operating Temp. (degreesC): 85; Min. Operating Temp. (degreesC): -40; Output Frequency Min. (MHz): 10; Packing: Tape and Reel; RoHS: Pb-Free; Mounting Technology: Surface Mount; Code_JEDEC: MS-012; ComponentLink1Description: Manufacturer URL; ComponentLink1URL: http://www.cypress.com/; ComponentLink2Description: Datasheet; ComponentLink2URL: http://www.cypress.com/?docID=46691; ComponentLink3Description: Package Specification; ComponentLink3URL: http://www.cypress.com/?docID=39153
footprint CYP-SX8_N (SOIC, 8-Leads, Body 4.89x3.90mm, Pitch 1.27mm, IPC Medium Density)
footprint CYP-SX8_L (SOIC, 8-Leads, Body 4.89x3.90mm, Pitch 1.27mm, IPC High Density)
footprint CYP-SX8_M (SOIC, 8-Leads, Body 4.89x3.90mm, Pitch 1.27mm, IPC Low Density)
pins: 1 REF (in) "Input reference frequency", 2 CLK2 (hiz) "Buffered clock output", 3 CLK1 (hiz) "Buffered clock output", 4 GND (power) "Ground", 5 CLK3 (hiz) "Buffered clock output", 6 VDD (power) "3.3 V supply", 7 CLK4 (hiz) "Buffered clock output", 8 CLKOUT (hiz) "Buffered clock output, internal feedback on this pin"

## CY2308SI-1T
designator U?
Zero Delay Buffer, 3.3 V, 8 Outputs, 10 to 133 MHz, -40 to 85 degC, 16-Pin SOIC (S16), Tape and Reel; Manufacturer: Cypress; PartNumber: CY2308SI-1T; Input Frequency Max. (MHz): 133; Input Frequency Min. (MHz): 10; Max. Operating Voltage (V): 3.6; Min. Operating Voltage (V): 3; No. of Outputs: 8; DatasheetVersion: Rev. *N; PackageVersion: Rev. *E, 09/2012; PackageReference: S16; PackageDescription: 16-Pin Small Outline Integrated Circuit Package, Body 9.893 x 3.8985 mm, Pitch 1.27 mm; Supplier 1: Mouser; Supplier Part Number 1: N/A; Max. Operating Temp. (degreesC): 85; Min. Operating Temp. (degreesC): -40; Output Frequency Max. (MHz): 133; Output Frequency Min. (MHz): 10; Packing: Tape and Reel; Mounting Technology: Surface Mount; Code_JEDEC: MS-012; ComponentLink1Description: Manufacturer URL; ComponentLink1URL: http://www.cypress.com/; ComponentLink2Description: Datasheet; ComponentLink2URL: http://www.cypress.com/?docID=46690; ComponentLink3Description: Package Specification; ComponentLink3URL: http://www.cypress.com/?docID=41580
footprint CYP-S16_N (SOIC, 16-Leads, Body 10x4mm, Pitch 1.27mm, IPC Medium Density)
footprint CYP-S16_L (SOIC, 16-Leads, Body 10x4mm, Pitch 1.27mm, IPC High Density)
footprint CYP-S16_M (SOIC, 16-Leads, Body 10x4mm, Pitch 1.27mm, IPC Low Density)
pins: 1 REF (in) "Input reference frequency", 2 CLKA1 (hiz) "Clock output, Bank A", 3 CLKA2 (hiz) "Clock output, Bank A", 4 VDD (power) "Power supply voltage", 5 GND (power) "Power supply ground", 6 CLKB1 (hiz) "Clock output, Bank B", 7 CLKB2 (hiz) "Clock output, Bank B", 8 S2 (in) "Select input, bit 2", 9 S1 (in) "Select input, bit 1", 10 CLKB3 (hiz) "Clock output, Bank B", 11 CLKB4 (hiz) "Clock output, Bank B", 12 GND (power) "Power supply ground", 13 VDD (power) "Power supply voltage", 14 CLKA3 (hiz) "Clock output, Bank A", 15 CLKA4 (hiz) "Clock output, Bank A", 16 FBK (in) "PLL feedback input"

## CY2308SI-2
designator U?
Zero Delay Buffer, 3.3 V, 8 Outputs, 10 to 133 MHz, -40 to 85 degC, 16-Pin SOIC (S16), Tube; Manufacturer: Cypress; PartNumber: CY2308SI-2; Input Frequency Max. (MHz): 133; Input Frequency Min. (MHz): 10; Max. Operating Voltage (V): 3.6; Min. Operating Voltage (V): 3; No. of Outputs: 8; DatasheetVersion: Rev. *N; PackageVersion: Rev. *E, 09/2012; PackageReference: S16; PackageDescription: 16-Pin Small Outline Integrated Circuit Package, Body 9.893 x 3.8985 mm, Pitch 1.27 mm; Supplier 1: Digi-Key; Supplier Part Number 1: 428-1357-ND; Supplier 2: Mouser; Supplier Part Number 2: 727-CY2308SI2; Max. Operating Temp. (degreesC): 85; Min. Operating Temp. (degreesC): -40; Output Frequency Max. (MHz): 133; Output Frequency Min. (MHz): 10; Packing: Tube; Mounting Technology: Surface Mount; Code_JEDEC: MS-012; ComponentLink1Description: Manufacturer URL; ComponentLink1URL: http://www.cypress.com/; ComponentLink2Description: Datasheet; ComponentLink2URL: http://www.cypress.com/?docID=46690; ComponentLink3Description: Package Specification; ComponentLink3URL: http://www.cypress.com/?docID=41580
footprint CYP-S16_N (SOIC, 16-Leads, Body 10x4mm, Pitch 1.27mm, IPC Medium Density)
footprint CYP-S16_L (SOIC, 16-Leads, Body 10x4mm, Pitch 1.27mm, IPC High Density)
footprint CYP-S16_M (SOIC, 16-Leads, Body 10x4mm, Pitch 1.27mm, IPC Low Density)
pins: 1 REF (in) "Input reference frequency", 2 CLKA1 (hiz) "Clock output, Bank A", 3 CLKA2 (hiz) "Clock output, Bank A", 4 VDD (power) "Power supply voltage", 5 GND (power) "Power supply ground", 6 CLKB1 (hiz) "Clock output, Bank B", 7 CLKB2 (hiz) "Clock output, Bank B", 8 S2 (in) "Select input, bit 2", 9 S1 (in) "Select input, bit 1", 10 CLKB3 (hiz) "Clock output, Bank B", 11 CLKB4 (hiz) "Clock output, Bank B", 12 GND (power) "Power supply ground", 13 VDD (power) "Power supply voltage", 14 CLKA3 (hiz) "Clock output, Bank A", 15 CLKA4 (hiz) "Clock output, Bank A", 16 FBK (in) "PLL feedback input"

## CY2308SI-2T
designator U?
Zero Delay Buffer, 3.3 V, 8 Outputs, 10 to 133 MHz, -40 to 85 degC, 16-Pin SOIC (S16), Tape and Reel; Manufacturer: Cypress; PartNumber: CY2308SI-2T; Input Frequency Max. (MHz): 133; Input Frequency Min. (MHz): 10; Max. Operating Voltage (V): 3.6; Min. Operating Voltage (V): 3; No. of Outputs: 8; DatasheetVersion: Rev. *N; PackageVersion: Rev. *E, 09/2012; PackageReference: S16; PackageDescription: 16-Pin Small Outline Integrated Circuit Package, Body 9.893 x 3.8985 mm, Pitch 1.27 mm; Supplier 1: Mouser; Supplier Part Number 1: N/A; Max. Operating Temp. (degreesC): 85; Min. Operating Temp. (degreesC): -40; Output Frequency Max. (MHz): 133; Output Frequency Min. (MHz): 10; Packing: Tape and Reel; Mounting Technology: Surface Mount; Code_JEDEC: MS-012; ComponentLink1Description: Manufacturer URL; ComponentLink1URL: http://www.cypress.com/; ComponentLink2Description: Datasheet; ComponentLink2URL: http://www.cypress.com/?docID=46690; ComponentLink3Description: Package Specification; ComponentLink3URL: http://www.cypress.com/?docID=41580
footprint CYP-S16_N (SOIC, 16-Leads, Body 10x4mm, Pitch 1.27mm, IPC Medium Density)
footprint CYP-S16_L (SOIC, 16-Leads, Body 10x4mm, Pitch 1.27mm, IPC High Density)
footprint CYP-S16_M (SOIC, 16-Leads, Body 10x4mm, Pitch 1.27mm, IPC Low Density)
pins: 1 REF (in) "Input reference frequency", 2 CLKA1 (hiz) "Clock output, Bank A", 3 CLKA2 (hiz) "Clock output, Bank A", 4 VDD (power) "Power supply voltage", 5 GND (power) "Power supply ground", 6 CLKB1 (hiz) "Clock output, Bank B", 7 CLKB2 (hiz) "Clock output, Bank B", 8 S2 (in) "Select input, bit 2", 9 S1 (in) "Select input, bit 1", 10 CLKB3 (hiz) "Clock output, Bank B", 11 CLKB4 (hiz) "Clock output, Bank B", 12 GND (power) "Power supply ground", 13 VDD (power) "Power supply voltage", 14 CLKA3 (hiz) "Clock output, Bank A", 15 CLKA4 (hiz) "Clock output, Bank A", 16 FBK (in) "PLL feedback input"

## CY2308SXC-1
designator U?
Zero Delay Buffer, 3.3 V, 8 Outputs, 10 to 133 MHz, 0 to 70 degC, 16-Pin SOIC (SX16), Tube; Manufacturer: Cypress; PartNumber: CY2308SXC-1; Input Frequency Max. (MHz): 133; Input Frequency Min. (MHz): 10; Max. Operating Voltage (V): 3.6; Min. Operating Voltage (V): 3; No. of Outputs: 8; DatasheetVersion: Rev. *N; PackageVersion: Rev. *E, 09/2012; PackageReference: SX16; PackageDescription: 16-Pin SOIC (150 MIL), Body 9.89 x 3.90 mm, Pitch 1.27 mm; Supplier 1: Digi-Key; Supplier Part Number 1: 428-1768-5-ND; Supplier 2: Farnell; Supplier Part Number 2: 1837323; Supplier 3: Newark; Supplier Part Number 3: 19M2177; Supplier 4: Mouser; Supplier Part Number 4: 727-CY2308SXC-1; Max. Operating Temp. (degreesC): 70; Min. Operating Temp. (degreesC): 0; Output Frequency Max. (MHz): 133; Output Frequency Min. (MHz): 10; Packing: Tube; RoHS: Pb-Free; Mounting Technology: Surface Mount; Code_JEDEC: MS-012; ComponentLink1Description: Manufacturer URL; ComponentLink1URL: http://www.cypress.com/; ComponentLink2Description: Datasheet; ComponentLink2URL: http://www.cypress.com/?docID=46690; ComponentLink3Description: Package Specification; ComponentLink3URL: http://www.cypress.com/?docID=39437
footprint CYP-SX16_N (SOIC, 16-Leads, Body 9.9x3.9mm, Pitch 1.27mm, IPC Medium Density)
footprint CYP-SX16_L (SOIC, 16-Leads, Body 9.9x3.9mm, Pitch 1.27mm, IPC High Density)
footprint CYP-SX16_M (SOIC, 16-Leads, Body 9.9x3.9mm, Pitch 1.27mm, IPC Low Density)
pins: 1 REF (in) "Input reference frequency", 2 CLKA1 (hiz) "Clock output, Bank A", 3 CLKA2 (hiz) "Clock output, Bank A", 4 VDD (power) "Power supply voltage", 5 GND (power) "Power supply ground", 6 CLKB1 (hiz) "Clock output, Bank B", 7 CLKB2 (hiz) "Clock output, Bank B", 8 S2 (in) "Select input, bit 2", 9 S1 (in) "Select input, bit 1", 10 CLKB3 (hiz) "Clock output, Bank B", 11 CLKB4 (hiz) "Clock output, Bank B", 12 GND (power) "Power supply ground", 13 VDD (power) "Power supply voltage", 14 CLKA3 (hiz) "Clock output, Bank A", 15 CLKA4 (hiz) "Clock output, Bank A", 16 FBK (in) "PLL feedback input"

## CY2308SXC-1H
designator U?
Zero Delay Buffer, 3.3 V, 8 Outputs, 10 to 133 MHz, 0 to 70 degC, 16-Pin SOIC (SX16), Tube; Manufacturer: Cypress; PartNumber: CY2308SXC-1H; Input Frequency Max. (MHz): 133; Input Frequency Min. (MHz): 10; Max. Operating Voltage (V): 3.6; Min. Operating Voltage (V): 3; No. of Outputs: 8; DatasheetVersion: Rev. *N; PackageVersion: Rev. *E, 09/2012; PackageReference: SX16; PackageDescription: 16-Pin SOIC (150 MIL), Body 9.89 x 3.90 mm, Pitch 1.27 mm; Supplier 1: Digi-Key; Supplier Part Number 1: 428-2197-5-ND; Supplier 2: Farnell; Supplier Part Number 2: 1837324; Supplier 3: Newark; Supplier Part Number 3: 19M2178; Supplier 4: Newark; Supplier Part Number 4: 13P0135; Supplier 5: Mouser; Supplier Part Number 5: 727-CY2308SXC-1H; Max. Operating Temp. (degreesC): 70; Min. Operating Temp. (degreesC): 0; Output Frequency Max. (MHz): 133; Output Frequency Min. (MHz): 10; Packing: Tube; RoHS: Pb-Free; Mounting Technology: Surface Mount; Code_JEDEC: MS-012; ComponentLink1Description: Manufacturer URL; ComponentLink1URL: http://www.cypress.com/; ComponentLink2Description: Datasheet; ComponentLink2URL: http://www.cypress.com/?docID=46690; ComponentLink3Description: Package Specification; ComponentLink3URL: http://www.cypress.com/?docID=39437
footprint CYP-SX16_N (SOIC, 16-Leads, Body 9.9x3.9mm, Pitch 1.27mm, IPC Medium Density)
footprint CYP-SX16_L (SOIC, 16-Leads, Body 9.9x3.9mm, Pitch 1.27mm, IPC High Density)
footprint CYP-SX16_M (SOIC, 16-Leads, Body 9.9x3.9mm, Pitch 1.27mm, IPC Low Density)
pins: 1 REF (in) "Input reference frequency", 2 CLKA1 (hiz) "Clock output, Bank A", 3 CLKA2 (hiz) "Clock output, Bank A", 4 VDD (power) "Power supply voltage", 5 GND (power) "Power supply ground", 6 CLKB1 (hiz) "Clock output, Bank B", 7 CLKB2 (hiz) "Clock output, Bank B", 8 S2 (in) "Select input, bit 2", 9 S1 (in) "Select input, bit 1", 10 CLKB3 (hiz) "Clock output, Bank B", 11 CLKB4 (hiz) "Clock output, Bank B", 12 GND (power) "Power supply ground", 13 VDD (power) "Power supply voltage", 14 CLKA3 (hiz) "Clock output, Bank A", 15 CLKA4 (hiz) "Clock output, Bank A", 16 FBK (in) "PLL feedback input"

## CY2308SXC-1HT
designator U?
Zero Delay Buffer, 3.3 V, 8 Outputs, 10 to 133 MHz, 0 to 70 degC, 16-Pin SOIC (SX16), Tape and Reel; Manufacturer: Cypress; PartNumber: CY2308SXC-1HT; Input Frequency Max. (MHz): 133; Input Frequency Min. (MHz): 10; Max. Operating Voltage (V): 3.6; Min. Operating Voltage (V): 3; No. of Outputs: 8; DatasheetVersion: Rev. *N; PackageVersion: Rev. *E, 09/2012; PackageReference: SX16; PackageDescription: 16-Pin SOIC (150 MIL), Body 9.89 x 3.90 mm, Pitch 1.27 mm; Supplier 1: Digi-Key; Supplier Part Number 1: CY2308SXC-1HT-ND; Supplier 2: Mouser; Supplier Part Number 2: 727-CY2308SXC-1HT; Max. Operating Temp. (degreesC): 70; Min. Operating Temp. (degreesC): 0; Output Frequency Max. (MHz): 133; Output Frequency Min. (MHz): 10; Packing: Tape and Reel; RoHS: Pb-Free; Mounting Technology: Surface Mount; Code_JEDEC: MS-012; ComponentLink1Description: Manufacturer URL; ComponentLink1URL: http://www.cypress.com/; ComponentLink2Description: Datasheet; ComponentLink2URL: http://www.cypress.com/?docID=46690; ComponentLink3Description: Package Specification; ComponentLink3URL: http://www.cypress.com/?docID=39437
footprint CYP-SX16_N (SOIC, 16-Leads, Body 9.9x3.9mm, Pitch 1.27mm, IPC Medium Density)
footprint CYP-SX16_L (SOIC, 16-Leads, Body 9.9x3.9mm, Pitch 1.27mm, IPC High Density)
footprint CYP-SX16_M (SOIC, 16-Leads, Body 9.9x3.9mm, Pitch 1.27mm, IPC Low Density)
pins: 1 REF (in) "Input reference frequency", 2 CLKA1 (hiz) "Clock output, Bank A", 3 CLKA2 (hiz) "Clock output, Bank A", 4 VDD (power) "Power supply voltage", 5 GND (power) "Power supply ground", 6 CLKB1 (hiz) "Clock output, Bank B", 7 CLKB2 (hiz) "Clock output, Bank B", 8 S2 (in) "Select input, bit 2", 9 S1 (in) "Select input, bit 1", 10 CLKB3 (hiz) "Clock output, Bank B", 11 CLKB4 (hiz) "Clock output, Bank B", 12 GND (power) "Power supply ground", 13 VDD (power) "Power supply voltage", 14 CLKA3 (hiz) "Clock output, Bank A", 15 CLKA4 (hiz) "Clock output, Bank A", 16 FBK (in) "PLL feedback input"